# Altium schematic symbol library SCH - POWER - SWITCHMODE - TI TPS61196PWP.SchLib: 1 symbol
Pins are listed as number, name and electrical type; pins without a type are passive.

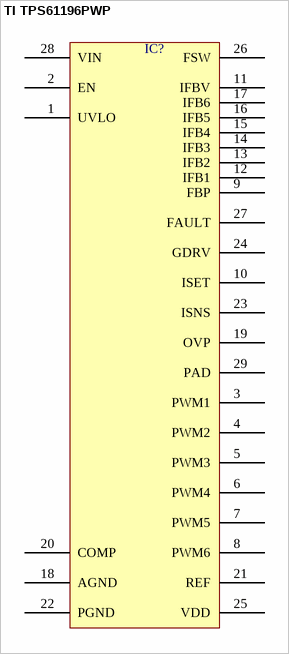
[diagram p0: symbol TI TPS61196PWP]

## TI TPS61196PWP
designator IC?  (value not drawn)
pins: 1 UVLO, 2 EN, 3 PWM1, 4 PWM2, 5 PWM3, 6 PWM4, 7 PWM5, 8 PWM6, 9 FBP, 10 ISET, 11 IFBV, 12 IFB1, 13 IFB2, 14 IFB3, 15 IFB4, 16 IFB5, 17 IFB6, 18 AGND, 19 OVP, 20 COMP, 21 REF, 22 PGND, 23 ISNS, 24 GDRV, 25 VDD, 26 FSW, 27 FAULT, 28 VIN, 29 PAD